# Altium footprint library Button_Switch_SMD.PcbLib: 169 footprints (part 8 of 12)
Each footprint in its own frame and in the unit in brackets; x right, y up, seen from the top. Pads: shape width x height; smd on the part's side, far side on the other; paste and mask are expansions set on the pad; w line width, h text height; cw(c..) or ccw(c..) is an arc to the next point about the centre after c.
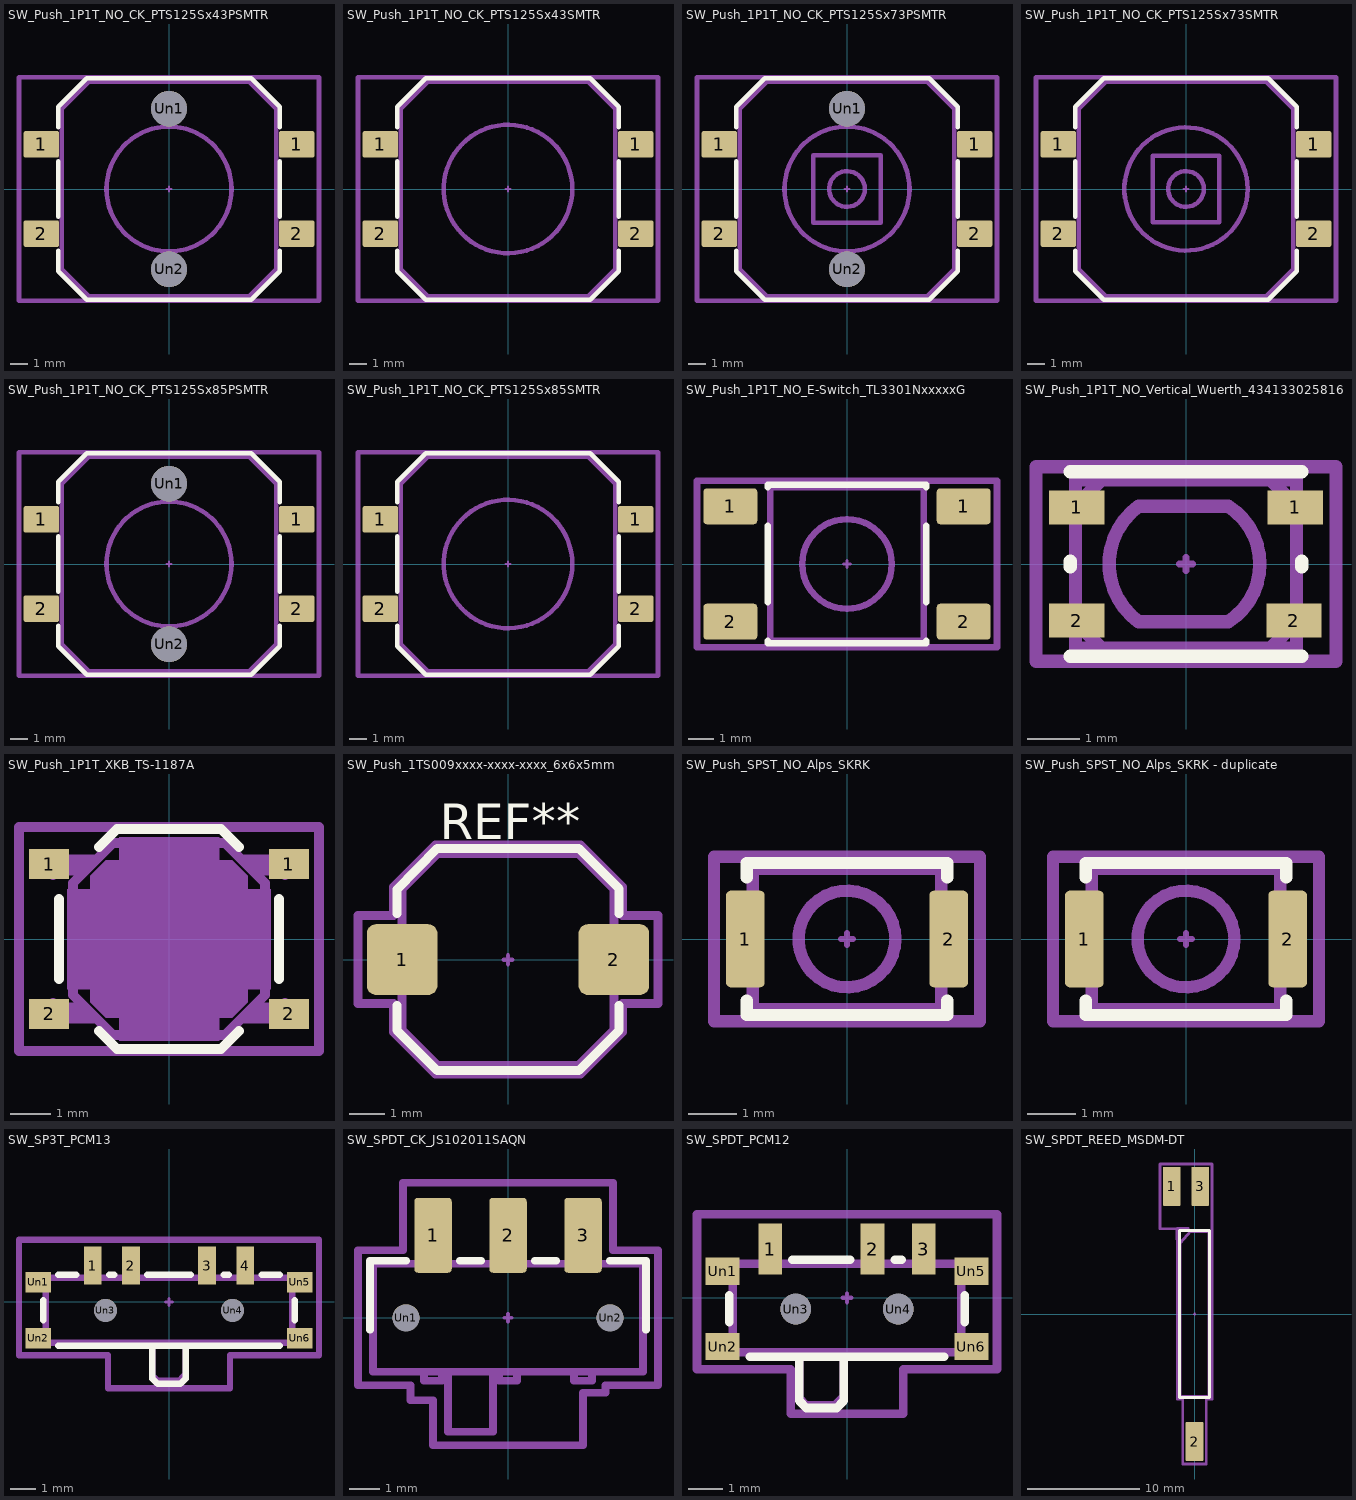
[diagram p7: the footprints below, top view; thin cyan lines are the x and y axes]

## SW_Push_1P1T_NO_CK_PTS125Sx43PSMTR [mm] "SW_Push_1P1T_NO_CK_PTS125Sx43PSMTR"
pads (6):
  rrect17% 2x1.5 smd: 1(-7.15,2.5) 1(7.15,2.5) 2(-7.15,-2.5) 2(7.15,-2.5)
  round 2 hole 2: Un1(0,4.5) Un2(0,-4.5)
F.SilkS:
  lines w0.254: -6.2,-3.45 -6.2,-4.6 -4.6,-6.2 4.6,-6.2 6.2,-4.6 6.2,-3.45 ; -6.2,-1.55 -6.2,1.55 ; -6.2,3.45 -6.2,4.6 -4.6,6.2 4.6,6.2 6.2,4.6 6.2,3.45 ; 6.2,-1.55 6.2,1.55
Top Component Center:
  lines w0.127: -0.127,0 0.127,0 ; 0,-0.127 0,0.127
Top Assembly:
  circle w0.254: c0,0 r3.5
  lines w0.254: -6,-4.5 -6,4.5 -4.5,6 4.5,6 6,4.5 6,-4.5 4.5,-6 -4.5,-6 -6,-4.5
Top Courtyard:
  lines w0.254: -8.4,-6.25 -8.4,6.25 8.4,6.25 8.4,-6.25 -8.4,-6.25
Top Designator:
  text ".Designator" at -3.432,-0.345 h1.52

## SW_Push_1P1T_NO_CK_PTS125Sx43SMTR [mm] "SW_Push_1P1T_NO_CK_PTS125Sx43SMTR"
pads (4):
  rrect17% 2x1.5 smd: 1(-7.15,2.5) 1(7.15,2.5) 2(-7.15,-2.5) 2(7.15,-2.5)
F.SilkS:
  lines w0.254: -6.2,-3.45 -6.2,-4.6 -4.6,-6.2 4.6,-6.2 6.2,-4.6 6.2,-3.45 ; -6.2,-1.55 -6.2,1.55 ; -6.2,3.45 -6.2,4.6 -4.6,6.2 4.6,6.2 6.2,4.6 6.2,3.45 ; 6.2,-1.55 6.2,1.55
Top Component Center:
  lines w0.127: -0.127,0 0.127,0 ; 0,-0.127 0,0.127
Top Assembly:
  circle w0.254: c0,0 r3.6
  lines w0.254: -6,-4.5 -6,4.5 -4.5,6 4.5,6 6,4.5 6,-4.5 4.5,-6 -4.5,-6 -6,-4.5
Top Courtyard:
  lines w0.254: -8.4,-6.25 -8.4,6.25 8.4,6.25 8.4,-6.25 -8.4,-6.25
Top Designator:
  text ".Designator" at -3.432,-0.345 h1.52

## SW_Push_1P1T_NO_CK_PTS125Sx73PSMTR [mm] "SW_Push_1P1T_NO_CK_PTS125Sx73PSMTR"
pads (6):
  rrect17% 2x1.5 smd: 1(-7.15,2.5) 1(7.15,2.5) 2(-7.15,-2.5) 2(7.15,-2.5)
  round 2 hole 2: Un1(0,4.5) Un2(0,-4.5)
F.SilkS:
  lines w0.254: -6.2,-3.45 -6.2,-4.6 -4.6,-6.2 4.6,-6.2 6.2,-4.6 6.2,-3.45 ; -6.2,-1.55 -6.2,1.55 ; -6.2,3.45 -6.2,4.6 -4.6,6.2 4.6,6.2 6.2,4.6 6.2,3.45 ; 6.2,-1.55 6.2,1.55
Top Component Center:
  lines w0.127: -0.127,0 0.127,0 ; 0,-0.127 0,0.127
Top Assembly:
  circle w0.254: c0,0 r1
  circle w0.254: c0,0 r3.5
  lines w0.254: -6,-4.5 -6,4.5 -4.5,6 4.5,6 6,4.5 6,-4.5 4.5,-6 -4.5,-6 -6,-4.5 ; -1.9,-1.9 -1.9,1.9 1.9,1.9 1.9,-1.9 -1.9,-1.9
Top Courtyard:
  lines w0.254: -8.4,-6.25 -8.4,6.25 8.4,6.25 8.4,-6.25 -8.4,-6.25
Top Designator:
  text ".Designator" at -3.432,-0.345 h1.52

## SW_Push_1P1T_NO_CK_PTS125Sx73SMTR [mm] "SW_Push_1P1T_NO_CK_PTS125Sx73SMTR"
pads (4):
  rrect17% 2x1.5 smd: 1(-7.15,2.5) 1(7.15,2.5) 2(-7.15,-2.5) 2(7.15,-2.5)
F.SilkS:
  lines w0.254: -6.2,-3.45 -6.2,-4.6 -4.6,-6.2 4.6,-6.2 6.2,-4.6 6.2,-3.45 ; -6.2,-1.55 -6.2,1.55 ; -6.2,3.45 -6.2,4.6 -4.6,6.2 4.6,6.2 6.2,4.6 6.2,3.45 ; 6.2,-1.55 6.2,1.55
Top Component Center:
  lines w0.127: -0.127,0 0.127,0 ; 0,-0.127 0,0.127
Top Assembly:
  circle w0.254: c0,0 r3.45
  circle w0.254: c0,0 r1
  lines w0.254: -6,-4.5 -4.5,-6 4.5,-6 6,-4.5 6,4.5 4.5,6 -4.5,6 -6,4.5 -6,-4.5 ; -1.875,-1.875 1.875,-1.875 1.875,1.875 -1.875,1.875 -1.875,-1.875
Top Courtyard:
  lines w0.254: -8.4,-6.25 8.4,-6.25 8.4,6.25 -8.4,6.25 -8.4,-6.25
Top Designator:
  text ".Designator" at -3.432,-0.345 h1.52

## SW_Push_1P1T_NO_CK_PTS125Sx85PSMTR [mm] "SW_Push_1P1T_NO_CK_PTS125Sx85PSMTR"
pads (6):
  rrect17% 2x1.5 smd: 1(-7.15,2.5) 1(7.15,2.5) 2(-7.15,-2.5) 2(7.15,-2.5)
  round 2 hole 2: Un1(0,4.5) Un2(0,-4.5)
F.SilkS:
  lines w0.254: -6.2,-3.45 -6.2,-4.6 -4.6,-6.2 4.6,-6.2 6.2,-4.6 6.2,-3.45 ; -6.2,-1.55 -6.2,1.55 ; -6.2,3.45 -6.2,4.6 -4.6,6.2 4.6,6.2 6.2,4.6 6.2,3.45 ; 6.2,-1.55 6.2,1.55
Top Component Center:
  lines w0.127: -0.127,0 0.127,0 ; 0,-0.127 0,0.127
Top Assembly:
  circle w0.254: c0,0 r3.5
  lines w0.254: -6,-4.5 -6,4.5 -4.5,6 4.5,6 6,4.5 6,-4.5 4.5,-6 -4.5,-6 -6,-4.5
Top Courtyard:
  lines w0.254: -8.4,-6.25 -8.4,6.25 8.4,6.25 8.4,-6.25 -8.4,-6.25
Top Designator:
  text ".Designator" at -3.432,-0.345 h1.52

## SW_Push_1P1T_NO_CK_PTS125Sx85SMTR [mm] "SW_Push_1P1T_NO_CK_PTS125Sx85SMTR"
pads (4):
  rrect17% 2x1.5 smd: 1(-7.15,2.5) 1(7.15,2.5) 2(-7.15,-2.5) 2(7.15,-2.5)
F.SilkS:
  lines w0.254: -6.2,-3.45 -6.2,-4.6 -4.6,-6.2 4.6,-6.2 6.2,-4.6 6.2,-3.45 ; -6.2,-1.55 -6.2,1.55 ; -6.2,3.45 -6.2,4.6 -4.6,6.2 4.6,6.2 6.2,4.6 6.2,3.45 ; 6.2,-1.55 6.2,1.55
Top Component Center:
  lines w0.127: -0.127,0 0.127,0 ; 0,-0.127 0,0.127
Top Assembly:
  circle w0.254: c0,0 r3.6
  lines w0.254: -6,-4.5 -4.5,-6 4.5,-6 6,-4.5 6,4.5 4.5,6 -4.5,6 -6,4.5 -6,-4.5
Top Courtyard:
  lines w0.254: -8.4,-6.25 8.4,-6.25 8.4,6.25 -8.4,6.25 -8.4,-6.25
Top Designator:
  text ".Designator" at -3.432,-0.345 h1.52

## SW_Push_1P1T_NO_E-Switch_TL3301NxxxxxG [mm] "SW_Push_1P1T_NO_E-Switch_TL3301NxxxxxG"
pads (4):
  rrect18% 2.1x1.4 smd: 1(-4.55,2.25) 1(4.55,2.25) 2(-4.55,-2.25) 2(4.55,-2.25)
F.SilkS:
  lines w0.254: -3.1,-3 -3.1,-3.1 3.1,-3.1 3.1,-3 ; -3.1,-1.5 -3.1,1.5 ; -3.1,3 -3.1,3.1 3.1,3.1 3.1,3 ; 3.1,-1.5 3.1,1.5
Top Component Center:
  lines w0.127: -0.127,0 0.127,0 ; 0,-0.127 0,0.127
Top Assembly:
  circle w0.254: c0,0 r1.75
  lines w0.254: -3,-3 3,-3 3,3 -3,3 -3,-3
Top Courtyard:
  lines w0.254: -5.85,-3.25 5.85,-3.25 5.85,3.25 -5.85,3.25 -5.85,-3.25
Top Designator:
  text ".Designator" at -3.432,-0.345 h1.52

## SW_Push_1P1T_NO_Vertical_Wuerth_434133025816 [mm] "SW_Push_1P1T_NO_Vertical_Wuerth_434133025816"
pads (4):
  rect 1.05x0.65 smd: 1(-2.075,1.075) 1(2.075,1.075) 2(-2.075,-1.075) 2(2.05,-1.075)
F.SilkS:
  lines w0.254: -2.2,-1.75 2.2,-1.75 ; -2.2,-0.05 -2.2,0.05 ; -2.2,1.75 2.2,1.75 ; 2.2,-0.05 2.2,0.05
Top Component Center:
  lines w0.127: -0.127,0 0.127,0 ; 0,-0.127 0,0.127
Top Assembly:
  lines w0.254: -2.1,-1.1 -1.6,-1.6 ; -2.1,1.1 -1.6,1.6 ; 1.6,-1.6 2.1,-1.1 ; 1.6,1.6 2.1,1.1 ; -2.1,-1.6 2.1,-1.6 2.1,1.6 -2.1,1.6 -2.1,-1.6 ; -0.9,-1.1 cw(c-0.1,0) -0.9,1.1 0.8,1.1 cw(c0.1,0) 0.8,-1.1 -0.9,-1.1
Top Courtyard:
  lines w0.254: -2.85,-1.85 2.85,-1.85 2.85,1.85 -2.85,1.85 -2.85,-1.85
Top Designator:
  text ".Designator" at -3.432,-0.345 h1.52

## SW_Push_1P1T_XKB_TS-1187A [mm] "SW_Push_1P1T_XKB_TS-1187A"
pads (4):
  rect 1x0.75 smd: 1(-3,1.875) 1(3,1.875) 2(-3,-1.875) 2(3,-1.875)
F.SilkS:
  lines w0.254: -2.75,-1 -2.75,1 ; -1.75,-2.3 -1.3,-2.75 1.3,-2.75 1.75,-2.3 ; -1.75,2.3 -1.3,2.75 1.3,2.75 1.75,2.3 ; 2.75,-1 2.75,1
Top Component Center:
  lines w0.127: -0.127,0 0.127,0 ; 0,-0.127 0,0.127
Top Assembly:
  circle w0.254: c0,0 r1
  region: -2.2,1.6 -3.25,1.6 -3.25,2.1 -1.7,2.1
  region: -1.7,-2.1 -3.25,-2.1 -3.25,-1.6 -2.2,-1.6
  region: 3.25,1.6 2.2,1.6 1.7,2.1 3.25,2.1
  region: 3.25,-2.1 1.7,-2.1 2.2,-1.6 3.25,-1.6
  region: 1.85,0.85 1.85,-0.85 0.85,-1.85 -0.85,-1.85 -1.85,-0.85 -1.85,0.85 -0.85,1.85 0.85,1.85
  region: 1.25,1.975 1.575,1.975 1.975,1.575 1.975,1.25 2.55,1.25 2.55,-1.25 1.975,-1.25 1.975,-1.575 1.575,-1.975 1.25,-1.975 1.25,-2.55 -1.25,-2.55 -1.25,-1.975 -1.575,-1.975 -1.975,-1.575 -1.975,-1.25 -2.55,-1.25 -2.55,1.25 -1.975,1.25 -1.975,1.575 -1.575,1.975 -1.25,1.975 -1.25,2.55 1.25,2.55
  lines w0.254: -2.9,-2.1 -2.9,-1.6 ; -2.9,1.6 -2.9,2.1 ; -2.4,-1.25 -2.4,-1.4 -1.4,-2.4 -1.25,-2.4 ; -2.4,1.25 -2.4,1.4 -1.4,2.4 -1.25,2.4 ; 1.25,-2.4 1.4,-2.4 2.4,-1.4 2.4,-1.25 ; 1.25,2.4 1.4,2.4 2.4,1.4 2.4,1.25 ; 2.9,-2.1 2.9,-1.6 ; 2.9,1.6 2.9,2.1
Top Courtyard:
  lines w0.254: -3.75,-2.8 -3.75,2.8 3.75,2.8 3.75,-2.8 -3.75,-2.8
Top Designator:
  text ".Designator" at -3.432,-0.345 h1.52

## SW_Push_1TS009xxxx-xxxx-xxxx_6x6x5mm [mm] "SW_Push_1TS009xxxx-xxxx-xxxx_6x6x5mm"
pads (2):
  rrect25% 2x2 smd: 1(-3,0) 2(3,0)
F.SilkS:
  lines w0.254: -3.15,-1.3 -3.15,-2 -2,-3.15 2,-3.15 3.15,-2 3.15,-1.3 ; -3.15,1.3 -3.15,1.981 -2,3.15 2,3.15 3.15,2 3.15,1.3
  text "REF**" at -1.933,3.414 h1
Top Component Center:
  lines w0.127: -0.127,0 0.127,0 ; 0,-0.127 0,0.127
Top Assembly:
  lines w0.254: -3,-2 -3,2 -2,3 2,3 3,2 3,-2 2,-3 -2,-3 -3,-2
Top Courtyard:
  lines w0.254: -4.25,-1.25 -4.25,1.25 -3.25,1.25 -3.25,2.05 -2.05,3.25 2.05,3.25 3.25,2.05 3.25,1.25 4.25,1.25 4.25,-1.25 3.25,-1.25 3.25,-2.05 2.05,-3.25 -2.05,-3.25 -3.25,-2.05 -3.25,-1.25 -4.25,-1.25
Top Designator:
  text ".Designator" at -3.305,1.306 h1.52
3D body "SW_Push_1TS009xxxx-xxxx-xxxx_6x6x5mm.step": height 5, standoff 0, extent -3.3,-3 3.3,3

## SW_Push_SPST_NO_Alps_SKRK [mm]
pads (2):
  rrect25% 0.8x2 smd: 1(-2.1,0) 2(2.1,0)
F.SilkS:
  lines w0.254: -2.07,-1.27 -2.07,-1.57 2.07,-1.57 2.07,-1.27 ; -2.07,1.27 -2.07,1.57 2.07,1.57 2.07,1.27
Top Component Center:
  lines w0.127: -0.127,0 0.127,0 ; 0,-0.127 0,0.127
Top Assembly:
  circle w0.254: c0,0 r1
  lines w0.254: -1.95,-1.45 -1.95,1.45 1.95,1.45 1.95,-1.45 -1.95,-1.45
Top Courtyard:
  lines w0.254: -2.75,-1.7 -2.75,1.7 2.75,1.7 2.75,-1.7 -2.75,-1.7
Top Designator:
  text ".Designator" at -3.582,-0.345 h1.52
3D body "SKRKAHE020.STEP": height 2.2, standoff 0, extent -2.4,-1.45 2.4,1.45

## SW_Push_SPST_NO_Alps_SKRK - duplicate [mm] "SW_Push_SPST_NO_Alps_SKRK - duplicate"
pads (2):
  rrect25% 0.8x2 smd: 1(-2.1,0) 2(2.1,0)
F.SilkS:
  lines w0.254: -2.07,-1.27 -2.07,-1.57 2.07,-1.57 2.07,-1.27 ; -2.07,1.27 -2.07,1.57 2.07,1.57 2.07,1.27
Top Component Center:
  lines w0.127: -0.127,0 0.127,0 ; 0,-0.127 0,0.127
Top Assembly:
  circle w0.254: c0,0 r1
  lines w0.254: -1.95,-1.45 -1.95,1.45 1.95,1.45 1.95,-1.45 -1.95,-1.45
Top Courtyard:
  lines w0.254: -2.75,-1.7 -2.75,1.7 2.75,1.7 2.75,-1.7 -2.75,-1.7
Top Designator:
  text ".Designator" at -3.432,-0.345 h1.52

## SW_SP3T_PCM13 [mm] "SW_SP3T_PCM13"
pads (10):
  rect 0.7x1.5 smd: 1(-3,1.43) 2(-1.5,1.43) 3(1.5,1.43) 4(3,1.43)
  rect 1x0.8 smd: Un1(-5.15,0.78) Un2(-5.15,-1.43) Un5(5.15,0.78) Un6(5.15,-1.43)
  round 0.9 hole 0.9: Un3(-2.5,-0.33) Un4(2.5,-0.33)
F.SilkS:
  lines w0.254: -4.95,-0.72 -4.95,0.07 ; -4.35,-1.72 4.35,-1.72 ; -4.35,1.07 -3.65,1.07 ; -2.35,1.07 -2.15,1.07 ; -0.85,1.07 0.85,1.07 ; -0.65,-1.72 -0.65,-3.02 -0.45,-3.22 0.45,-3.22 0.65,-3.02 0.65,-1.72 ; 2.15,1.07 2.35,1.07 ; 3.65,1.07 4.35,1.07 ; 4.95,-0.72 4.95,0.07
Top Component Center:
  lines w0.127: -0.127,0 0.127,0 ; 0,-0.127 0,0.127
Top Assembly:
  lines w0.254: -4.85,-1.6 -4.85,0.95 4.85,0.95 4.85,-1.6 -4.8,-1.6 ; -0.65,-1.6 -0.65,-2.9 -0.45,-3.1 0.4,-3.1 0.55,-2.95 0.65,-2.85 0.65,-1.6
Top Courtyard:
  lines w0.254: -5.9,-2.1 -2.4,-2.1 -2.4,-3.4 2.4,-3.4 2.4,-2.1 5.9,-2.1 5.9,2.45 -5.9,2.45 -5.9,-2.1
Top Designator:
  text ".Designator" at -3.432,-0.345 h1.52
3D body "SW_SP3T_PCM13.step": height 1.5, standoff -0.5, extent -5.35,-1.85 5.3,2.8

## SW_SPDT_CK_JS102011SAQN [mm] "SW_SPDT_CK_JS102011SAQN"
pads (5):
  rrect20% 1.25x2.5 smd: 1(-2.5,2.75) 2(0,2.75) 3(2.5,2.75)
  round 0.9 hole 0.9: Un1(-3.4,0) Un2(3.4,0)
F.SilkS:
  lines w0.254: -4.6,-0.4 -4.6,1.9 -3.4,1.9 ; -1.6,1.9 -0.9,1.9 ; 0.9,1.9 1.6,1.9 ; 3.4,1.9 4.6,1.9 4.6,-0.4
Top Component Center:
  lines w0.127: -0.127,0 0.127,0 ; 0,-0.127 0,0.127
Top Assembly:
  lines w0.254: -2.8,-1.8 -2.8,-2.1 -2.2,-2.1 -2.2,-1.8 ; -2,-1.8 -2,-3.8 -0.5,-3.8 -0.5,-1.8 ; -0.3,-1.8 -0.3,-2.1 0.3,-2.1 0.3,-1.8 ; 2.2,-1.8 2.2,-2.1 2.8,-2.1 2.8,-1.8 ; -4.5,-1.8 -4.5,1.8 4.5,1.8 4.5,-1.8 -4.5,-1.8
Top Courtyard:
  lines w0.254: -5,-2.25 -5,2.25 -3.5,2.25 -3.5,4.5 3.5,4.5 3.5,2.25 5,2.25 5,-2.25 3.25,-2.25 3.25,-2.5 2.5,-2.5 2.5,-4.25 -2.5,-4.25 -2.5,-2.75 -3.25,-2.75 -3.25,-2.25 -5,-2.25
Top Designator:
  text ".Designator" at -3.432,-0.345 h1.52

## SW_SPDT_PCM12 [mm] "SW_SPDT_PCM12"
pads (9):
  rect 0.7x1.5 smd: 1(-2.25,1.43) 2(0.75,1.43) 3(2.25,1.43)
  rect 1x0.8 smd: Un1(-3.65,0.78) Un2(-3.65,-1.43) Un5(3.65,0.78) Un6(3.65,-1.43)
  round 0.9 hole 0.9: Un3(-1.5,-0.33) Un4(1.5,-0.33)
F.SilkS:
  lines w0.254: -3.45,-0.72 -3.45,0.07 ; -2.85,-1.73 2.85,-1.73 ; -1.6,1.12 0.1,1.12 ; -1.4,-1.73 -1.4,-3.02 -1.2,-3.23 -0.3,-3.23 -0.1,-3.02 -0.1,-1.73 ; 1.4,1.12 1.6,1.12 ; 3.45,-0.72 3.45,0.07
Top Component Center:
  lines w0.127: -0.127,0 0.127,0 ; 0,-0.127 0,0.127
Top Assembly:
  lines w0.254: -1.4,-1.65 -1.4,-2.95 -1.2,-3.15 -0.35,-3.15 -0.15,-2.95 -0.1,-2.9 -0.1,-1.6 ; -3.35,-1.6 -3.35,1 3.35,1 3.35,-1.6 -3.35,-1.6
Top Courtyard:
  lines w0.254: -4.4,-2.1 -4.4,2.45 4.4,2.45 4.4,-2.1 1.65,-2.1 1.65,-3.4 -1.65,-3.4 -1.65,-2.1 -4.4,-2.1
Top Designator:
  text ".Designator" at -3.432,-0.345 h1.52
3D body "SW_SPDT_PCM12.step": height 1.5, standoff -0.5, extent -3.85,-1.87 3.85,3.13

## SW_SPDT_REED_MSDM-DT [mm] "SW_SPDT_REED_MSDM-DT"
pads (3):
  rrect16% 1.6x3.5 smd: 1(-2.03,11.4) 2(0,-11.4) 3(0.51,11.4)
F.SilkS:
  lines w0.254: -1.35,-7.47 -1.35,7.47 1.35,7.47 1.35,-7.47 -1.35,-7.47
Top Component Center:
  lines w0.127: -0.127,0 0.127,0 ; 0,-0.127 0,0.127
Top Assembly:
  lines w0.254: -1.56,6.65 -1.56,7.65 -0.56,7.65 ; -1.27,-7.365 -1.27,6.365 -0.35,7.365 1.27,7.365 1.27,-7.365 -1.27,-7.365
Top Courtyard:
  lines w0.254: -3.08,7.62 -3.08,13.4 1.56,13.4 1.56,-7.62 1.05,-7.62 1.05,-13.4 -1.05,-13.4 -1.05,-7.62 -1.52,-7.62 -1.52,7.62 -3.08,7.62
Top Designator:
  text ".Designator" at -0.345,3.432 h1.52